# EAGLE library part MICROPOGO-CONN-6P (library MicroPogo)
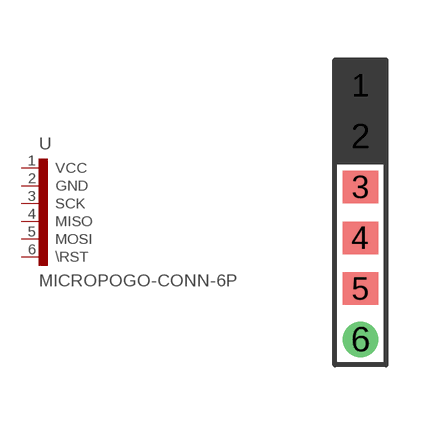
[diagram p0: symbol with the pads of MICROPOGO-CONN-6P-ASYM; footprint MICROPOGO-CONN-6P-ASYM]

Designator prefix -

## MICROPOGO-CONN-6P  [MICROPOGO-CONN-6P-ASYM]
1  VCC
2  GND
3  SCK
4  MISO
5  MOSI
6  \RST

## Footprint MICROPOGO-CONN-6P-ASYM (pad centres in mm)
smd 0.889 x 0.813: 1 0,3.81; 3 0,1.27; 4 0,0; 5 0,-1.27
drill 0.381: 2 0,2.54; 6 0,-2.54